# Altium footprint library SNAP_LIBRARY_FOOTPRINT.PcbLib: 1 footprints
Each footprint in its own frame and in the unit in brackets; x right, y up, seen from the top. Pads: shape width x height; smd on the part's side, far side on the other; paste and mask are expansions set on the pad; w line width, h text height; cw(c..) or ccw(c..) is an arc to the next point about the centre after c.
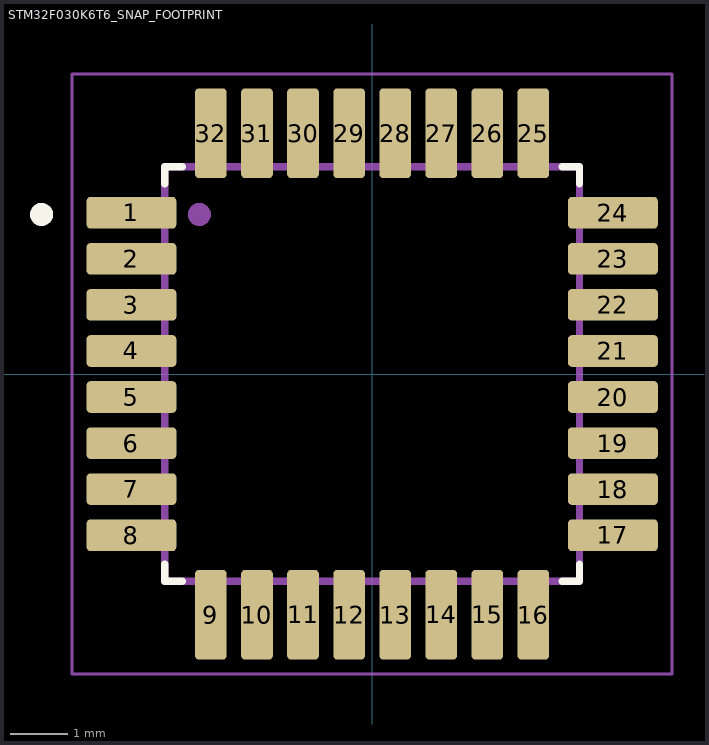
[diagram p0: the footprint, top view; thin cyan lines are the x and y axes]

## STM32F030K6T6_SNAP_FOOTPRINT [mm]
pads (32):
  rrect25% 1.56x0.55 smd: 1(-4.18,2.8) 2(-4.18,2) 3(-4.18,1.2) 4(-4.18,0.4) 5(-4.18,-0.4) 6(-4.18,-1.2) 7(-4.18,-2) 8(-4.18,-2.8) 17(4.18,-2.8) 18(4.18,-2) 19(4.18,-1.2) 20(4.18,-0.4) 21(4.18,0.4) 22(4.18,1.2) 23(4.18,2) 24(4.18,2.8)
  rrect25% 0.55x1.56 smd: 9(-2.8,-4.18) 10(-2,-4.18) 11(-1.2,-4.18) 12(-0.4,-4.18) 13(0.4,-4.18) 14(1.2,-4.18) 15(2,-4.18) 16(2.8,-4.18) 25(2.8,4.18) 26(2,4.18) 27(1.2,4.18) 28(0.4,4.18) 29(-0.4,4.18) 30(-1.2,4.18) 31(-2,4.18) 32(-2.8,4.18)
Top Overlay:
  circle w0.2: c-5.74,2.77 r0.1
  lines w0.127: -3.6,-3.3 -3.6,-3.6 -3.3,-3.6 ; -3.6,3.3 -3.6,3.6 -3.3,3.6 ; 3.3,-3.6 3.6,-3.6 3.6,-3.3 ; 3.3,3.6 3.6,3.6 3.6,3.3
Mechanical 13:
  circle w0.2: c-3,2.77 r0.1
  lines w0.127: -3.6,-3.6 -3.6,3.6 3.6,3.6 3.6,-3.6 -3.6,-3.6
Mechanical 15:
  lines w0.05: -5.21,-5.21 -5.21,5.21 5.21,5.21 5.21,-5.21 -5.21,-5.21
3D body "step_temp.STEP": height 0.72, standoff -0.87, extent -4.5,-4.5 4.5,4.5